# Altium schematic symbol library Relay_Grove.SchLib: 1 symbol
Pins are listed as number, name and electrical type; pins without a type are passive.

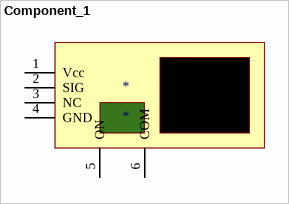
[diagram p0: symbol Component_1]

## Component_1
designator *
pins: 1 Vcc, 2 SIG, 3 NC, 4 GND, 5 ON, 6 COM